# EAGLE library part SAPRKFUN_MICRO_OLED (library bschulz)
Mounting for the Sparkfun Micro OLED LCD-13003 <https://www.sparkfun.com/products/13003>
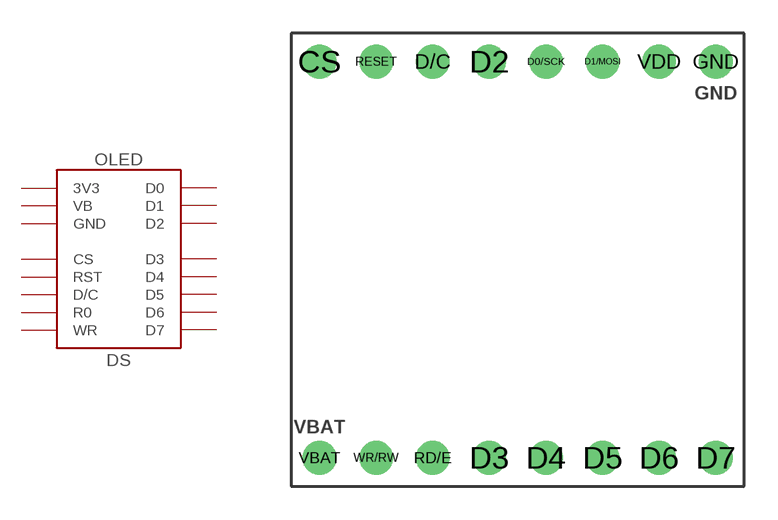
[diagram p102: symbol with the pads of SPARKFUN_MICRO_OLED; footprint SPARKFUN_MICRO_OLED]

Designator prefix DS

## SAPRKFUN_MICRO_OLED  [SPARKFUN_MICRO_OLED]
CS  CS  in
D0/SCK  D0
D1/MOSI  D1
D2  D2
D3  D3
D4  D4
D5  D5
D6  D6
D7  D7
D/C  D/C  in
GND  GND  pwr
RD/E  R0  in
RESET  RST  in
VBAT  VB  pwr
VDD  3V3  pwr
WR/RW  WR  in

## Footprint SPARKFUN_MICRO_OLED (pad centres in mm)
Layout for the Sparkfun Micro OLED LCD-13003 <https://www.sparkfun.com/products/13003>
drill 1: CS -8.89,8.89; D0/SCK 1.27,8.89; D1/MOSI 3.81,8.89; D2 -1.27,8.89; D3 -1.27,-8.89; D4 1.27,-8.89; D5 3.81,-8.89; D6 6.35,-8.89; D7 8.89,-8.89; D/C -3.81,8.89; GND 8.89,8.89; RD/E -3.81,-8.89; RESET -6.35,8.89; VBAT -8.89,-8.89; VDD 6.35,8.89; WR/RW -6.35,-8.89